# Altium schematic symbol library Diode_Tvs_9P_Common_Anode - Diodes, DT1240A-08LP3810-7.SchLib: 1 symbol
Pins are listed as number, name and electrical type; pins without a type are passive.

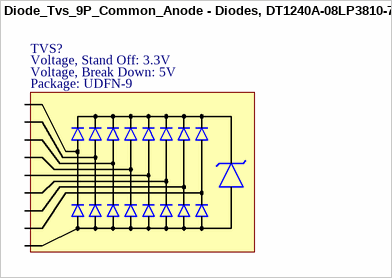
[diagram p0: symbol Diode_Tvs_9P_Common_Anode - Diodes, DT1240A-08LP3810-7]

## Diode_Tvs_9P_Common_Anode - Diodes, DT1240A-08LP3810-7
designator TVS?  Voltage, Break Down: 5V  Voltage, Stand Off: 3.3V  Package: UDFN-9  (hidden comment: *)
Manufacturer Part Number: DT1240A-08LP3810-7; Manufacturer: Diodes; Component Category: Diode; ComponentLink1Description: Datasheet; ComponentLink1URL: E:\Altium\Datasheets\Diode\Diodes, DT1240A-08LP3810-7.pdf; ComponentLink2Description: Supplier Link; ComponentLink2URL: https://www.digikey.com/en/products/detail/diodes-incorporated/dt1240a-08lp3810-7/8255867; Supplier: Digikey; Supplier Part Number: DT1240A-08LP3810-7DICT-ND; Operating Temperature, Min: -55℃; Operating Temperature, Max: +86℃; Quantity, Min: 1; Quantity, Max: 2500; Price, Min: 0.10245; Price, Max: 0.42; Supplier Currency: $; Supplier Link: https://www.digikey.com/en/products/detail/diodes-incorporated/dt1240a-08lp3810-7/8255867; Component Type: TVS
footprint Diode_Tvs_9P_Common_Anode - Diodes, DT1240A-08LP3810-7
pins: 1, 2, 3, 4, 5, 6, 7, 8, 9